# Altium integrated library Diodes.IntLib: 3 symbols
Pins are listed as number, name and electrical type; pins without a type are passive.

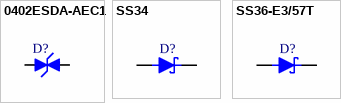
[diagram p0: symbols 0402ESDA-AEC1 to SS36-E3/57T]

## 0402ESDA-AEC1
designator D?  (value not drawn)
ESD Suppressor Diode TVS Bi-Dir 30V 35Vc 2-Pin Case 0402(1005Metric) T/R; Manufacturer: Eaton; Manufacturer Part Number: 0402ESDA-AEC1; Supplier: Digikey; Supplier Part Number: 283-0402ESDA-AEC1CT-ND; Value: *; Package/Case: 0402 (1005 Metric)
footprint DIOC1005
pins: 1, 2

## SS34
designator D?  (value not drawn)
Rectifier Diode, Schottky, 1 Phase, 1 Element, 3A, 40V V(RRM), Silicon, DO-214AB; Manufacturer Part Number: SS34; Manufacturer: onsemi; Supplier: DigiKey; Supplier Part Number: SS34FSCT-ND; Package/Case: DO-214AB, SMC; Value: *
footprint DIOM7959
pins: 1 A, 2 C

## SS36-E3/57T
designator D?  (value not drawn)
Rectifier Diode, Schottky, 1 Phase, 1 Element, 3A, 60V V(RRM), Silicon, DO-214AB; Manufacturer Part Number: SS36-E3/57T; Manufacturer: Vishay; Value: *; Supplier: DigiKey; Supplier Part Number: SS36-E3/57TGICT-ND; Package/Case: DO-214AB, SMC
footprint DIOM7959
pins: 1 A, 2 C